# Altium schematic symbol library LEDFPSch.SchLib: 1 symbol
Pins are listed as number, name and electrical type; pins without a type are passive.

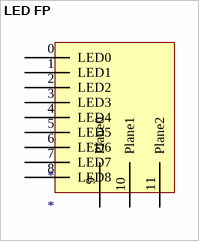
[diagram p0: symbol LED FP]

## LED FP
designator *
footprint Cube Column FP
pins: 0 LED0, 1 LED1, 2 LED2, 3 LED3, 4 LED4, 5 LED5, 6 LED6, 7 LED7, 8 LED8, 9 Plane0, 10 Plane1, 11 Plane2